# EAGLE library part ATMEGA*U4? (library VIO_module)
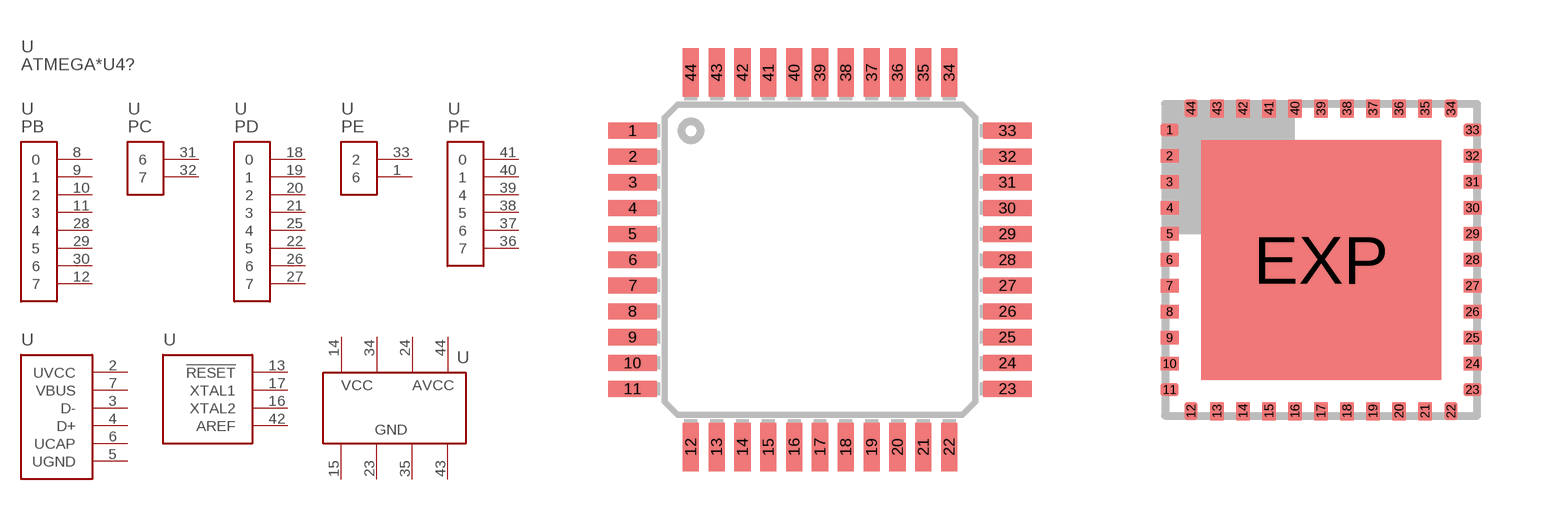
[diagram p0: symbol with the pads of TQFP44; footprints TQFP44, QFN44ML8X8]

Designator prefix U; gates PB=PORT01234567 PC=PORT67 PD=PORT01234567 PE=PORT26 PF=PORT014567 USB=PORTUSB SYS=PORTRESET1XTAL2AREF1 PWR=VCC2AVCC2GND4 G$1=_PART_VALUE

## ATMEGA16U4-AU, ATMEGA32U4-AU  [TQFP44]
1  PE:6
2  USB:UVCC  in
3  USB:D-
4  USB:D+
5  USB:UGND  in
6  USB:UCAP  pas
7  USB:VBUS  in
8  PB:0
9  PB:1
10  PB:2
11  PB:3
12  PB:7
13  SYS:!RESET  in
14  PWR:VCC1  in
15  PWR:GND1  in
16  SYS:XTAL2
17  SYS:XTAL1
18  PD:0
19  PD:1
20  PD:2
21  PD:3
22  PD:5
23  PWR:GND2  in
24  PWR:AVCC1  in
25  PD:4
26  PD:6
27  PD:7
28  PB:4
29  PB:5
30  PB:6
31  PC:6
32  PC:7
33  PE:2
34  PWR:VCC2  in
35  PWR:GND3  in
36  PF:7
37  PF:6
38  PF:5
39  PF:4
40  PF:1
41  PF:0
42  SYS:AREF  in
43  PWR:GND4  in
44  PWR:AVCC2  in

## ATMEGA16U4-MU, ATMEGA32U4-MU  [QFN44ML8X8]

## Footprint TQFP44 (pad centres in mm)
44-lead Thin Quad Flat Package
smd 1.5 x 0.5: 1 -5.8,4; 2 -5.8,3.2; 3 -5.8,2.4; 4 -5.8,1.6; 5 -5.8,0.8; 6 -5.8,0; 7 -5.8,-0.8; 8 -5.8,-1.6; 9 -5.8,-2.4; 10 -5.8,-3.2; 11 -5.8,-4; 23 5.8,-4; 24 5.8,-3.2; 25 5.8,-2.4; 26 5.8,-1.6; 27 5.8,-0.8; 28 5.8,0; 29 5.8,0.8; 30 5.8,1.6; 31 5.8,2.4; 32 5.8,3.2; 33 5.8,4
smd 0.5 x 1.5: 12 -4,-5.8; 13 -3.2,-5.8; 14 -2.4,-5.8; 15 -1.6,-5.8; 16 -0.8,-5.8; 17 0,-5.8; 18 0.8,-5.8; 19 1.6,-5.8; 20 2.4,-5.8; 21 3.2,-5.8; 22 4,-5.8; 34 4,5.8; 35 3.2,5.8; 36 2.4,5.8; 37 1.6,5.8; 38 0.8,5.8; 39 0,5.8; 40 -0.8,5.8; 41 -1.6,5.8; 42 -2.4,5.8; 43 -3.2,5.8; 44 -4,5.8

## Footprint QFN44ML8X8 (pad centres in mm)
44-Lead Plastic Quad Flat No Lead Package (ML) 8x8 mm Body (QFN) Source: http://ww1.microchip.com/downloads/en/devicedoc/39632c.pdf
smd 0.45 x 0.33: 1 -3.788,3.25; 2 -3.788,2.6; 3 -3.788,1.95; 4 -3.788,1.3; 5 -3.788,0.65; 6 -3.788,0; 7 -3.788,-0.65; 8 -3.788,-1.3; 9 -3.788,-1.95; 10 -3.788,-2.6; 11 -3.788,-3.25; 23 3.788,-3.25; 24 3.788,-2.6; 25 3.788,-1.95; 26 3.788,-1.3; 27 3.788,-0.65; 28 3.788,0; 29 3.788,0.65; 30 3.788,1.3; 31 3.788,1.95; 32 3.788,2.6; 33 3.788,3.25
smd 0.33 x 0.45: 12 -3.25,-3.788; 13 -2.6,-3.788; 14 -1.95,-3.788; 15 -1.3,-3.788; 16 -0.65,-3.788; 17 0,-3.788; 18 0.65,-3.788; 19 1.3,-3.788; 20 1.95,-3.788; 21 2.6,-3.788; 22 3.25,-3.788; 34 3.25,3.788; 35 2.6,3.788; 36 1.95,3.788; 37 1.3,3.788; 38 0.65,3.788; 39 0,3.788; 40 -0.65,3.788; 41 -1.3,3.788; 42 -1.95,3.788; 43 -2.6,3.788; 44 -3.25,3.788
smd 6 x 6: EXP 0,0